# Altium footprint library LED_SAMSUNG.PcbLib: 1 footprints
Each footprint in its own frame and in the unit in brackets; x right, y up, seen from the top. Pads: shape width x height; smd on the part's side, far side on the other; paste and mask are expansions set on the pad; w line width, h text height; cw(c..) or ccw(c..) is an arc to the next point about the centre after c.
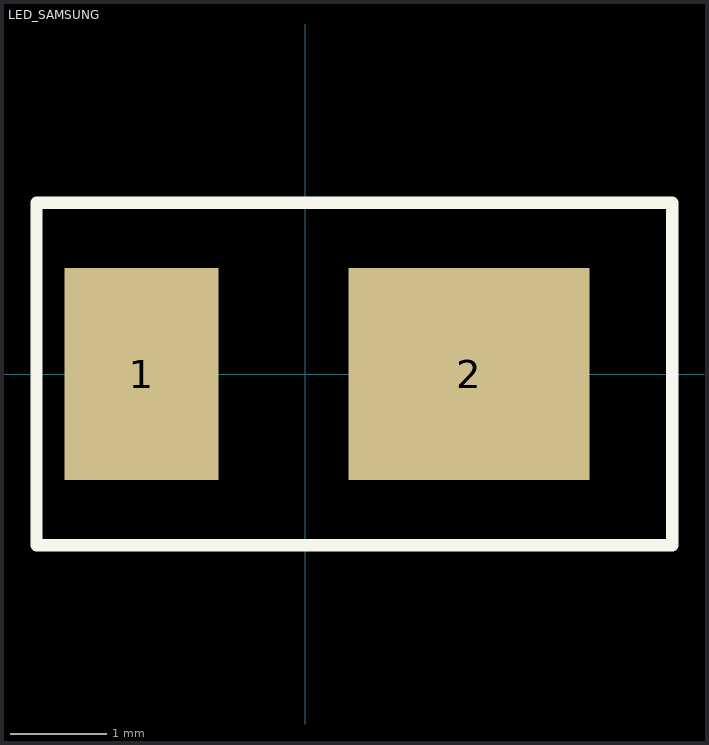
[diagram p0: the footprint, top view; thin cyan lines are the x and y axes]

## LED_SAMSUNG [mm]
pads (2):
  rect 1.6x2.2 smd: 1(-1.7,0)
  rect 2.5x2.2 smd: 2(1.7,0)
Top Overlay:
  lines w0.127: -2.794,-1.778 -2.794,0.744 -2.794,1.778 3.81,1.778 3.81,-1.778 -2.794,-1.778